# Altium schematic symbol library EST0261.SCHLIB: 1 symbol
Pins are listed as number, name and electrical type; pins without a type are passive.

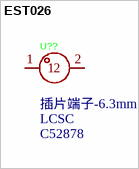
[diagram p0: symbol EST026]

## EST026
designator U??  LCSC Part Name: 插片端子-6.3mm  Supplier Part: C52878  Supplier: LCSC  (hidden comment: EST026)
Manufacturer: xcfuse(旭程); Add into BOM: yes; Symbol: EST026; Device: EST026; Manufacturer Part: EST026; Supplier Footprint: 插件; JLCPCB Part Class: Extended Part; Datasheet: https://item.szlcsc.com/datasheet/EST026/53893.html; Convert to PCB: yes
footprint CONN-TH_L6.3-W0.8-EST026
3D model CONN-TH_L6.3-W0.8-EST026
pins: 1, 2